# EAGLE library part OLED (library BaseApp)
OLED CFAL12832E-W-B1 , 128 x 32 Graphic OLED module , White OLED. https://www.crystalfontz.com/product/CFAL12832EWB1
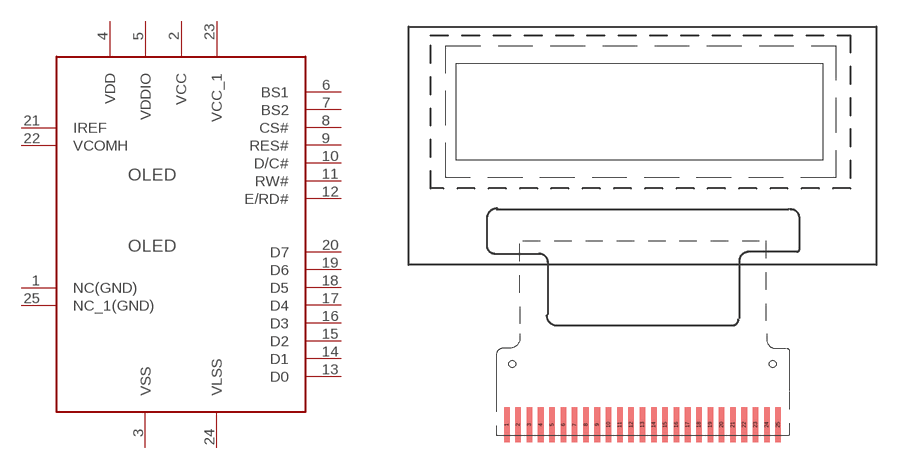
[diagram p0: symbol with the pads of OLED_SMD; footprint OLED_SMD]

Designator prefix OLED

## OLED  [OLED_SMD]
1  NC(GND)
2  VCC
3  VSS
4  VDD
5  VDDIO
6  BS1
7  BS2
8  CS#
9  RES#
10  D/C#
11  RW#
12  E/RD#
13  D0
14  D1
15  D2
16  D3
17  D4
18  D5
19  D6
20  D7
21  IREF
22  VCOMH
23  VCC_1
24  VLSS
25  NC_1(GND)

## Footprint OLED_SMD (pad centres in mm)
smd 0.32 x 2: 1 -7.02,-10.83; 2 -6.37,-10.83; 3 -5.72,-10.83; 4 -5.07,-10.83; 5 -4.42,-10.83; 6 -3.77,-10.83; 7 -3.12,-10.83; 8 -2.47,-10.83; 9 -1.82,-10.83; 10 -1.17,-10.83; 11 -0.52,-10.83; 12 0.13,-10.83; 13 0.78,-10.83; 14 1.43,-10.83; 15 2.08,-10.83; 16 2.73,-10.83; 17 3.38,-10.83; 18 4.03,-10.83; 19 4.68,-10.83; 20 5.33,-10.83; 21 5.98,-10.83; 22 6.63,-10.83; 23 7.28,-10.83; 24 7.93,-10.83; 25 8.58,-10.83
hole 0.4 at -6.72,-7.33
hole 0.4 at 8.28,-7.33